# Altium schematic symbol library Ad_Hoc_Parts.SchLib: 6 symbols
Pins are listed as number, name and electrical type; pins without a type are passive.

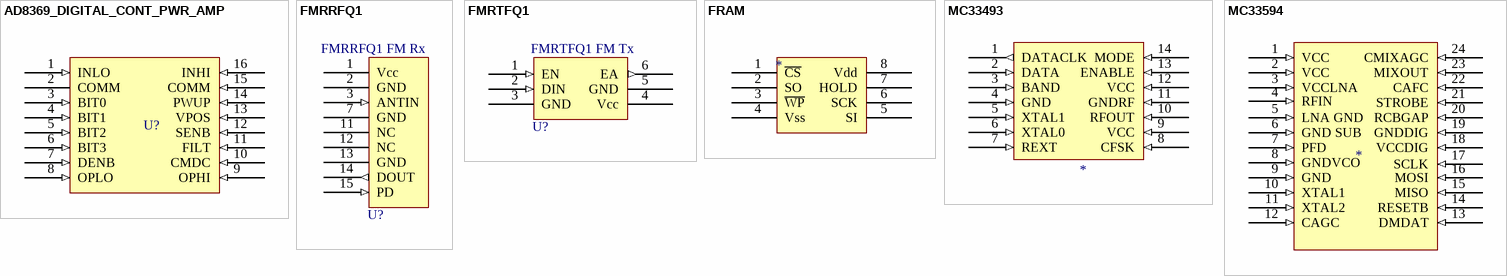
[diagram p0: symbols AD8369_DIGITAL_CONT_PWR_AMP to MC33594]

## AD8369_DIGITAL_CONT_PWR_AMP
designator U?
footprint DIP16-Adaptor
pins: 1 INLO (in), 2 COMM (power), 3 BIT0 (in), 4 BIT1 (in), 5 BIT2 (in), 6 BIT3 (in), 7 DENB (in), 8 OPLO (in), 9 OPHI (in), 10 CMDC (in), 11 FILT (in), 12 SENB (in), 13 VPOS (in), 14 PWUP (in), 15 COMM (in), 16 INHI (in)

## FMRRFQ1
designator U?, comment FMRRFQ1 FM Rx
footprint FMRRFQ1
pins: 1 Vcc, 2 GND, 3 ANTIN (in), 7 GND, 11 NC, 12 NC, 13 GND, 14 DOUT (out), 15 PD (in)

## FMRTFQ1
designator U?, comment FMRTFQ1 FM Tx
footprint FMRTFQ1
pins: 1 EN (in), 2 DIN (in), 3 GND, 4 Vcc, 5 GND, 6 EA (out)

## FRAM
designator *
footprint Ramtron FRAM
pins: 1 ~{CS}, 2 SO, 3 ~{WP}, 4 Vss, 5 SI, 6 SCK, 7 HOLD, 8 Vdd

## MC33493
designator *
pins: 1 DATACLK (out), 2 DATA (in), 3 BAND (in), 4 GND (in), 5 XTAL1 (in), 6 XTAL0 (in), 7 REXT (in), 8 CFSK (in), 9 VCC (in), 10 RFOUT (in), 11 GNDRF (in), 12 VCC (in), 13 ENABLE (in), 14 MODE (in)

## MC33594
designator *
pins: 1 VCC (in), 2 VCC (in), 3 VCCLNA (in), 4 RFIN (in), 5 LNA GND (in), 6 GND SUB (in), 7 PFD (in), 8 GNDVCO (in), 9 GND (in), 10 XTAL1 (in), 11 XTAL2 (in), 12 CAGC (in), 13 DMDAT (in), 14 RESETB (in), 15 MISO (in), 16 MOSI (in), 17 SCLK (in), 18 VCCDIG (in), 19 GNDDIG (in), 20 RCBGAP (in), 21 STROBE (in), 22 CAFC (in), 23 MIXOUT (in), 24 CMIXAGC (in)